# Altium schematic symbol library DummyTSSOP28.SchLib: 1 symbol
Pins are listed as number, name and electrical type; pins without a type are passive.

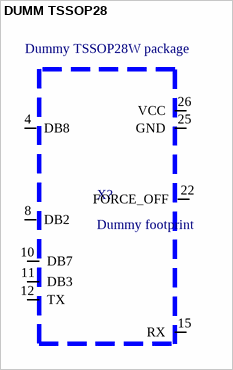
[diagram p0: symbol DUMM TSSOP28]

## DUMM TSSOP28
designator X?, comment Dummy footprint
pins: 4 DB8 (power), 8 DB2 (power), 10 DB7 (power), 11 DB3 (power), 12 TX (power), 15 RX (power), 22 FORCE_OFF (power), 25 GND (power), 26 VCC (power)
text: Dummy TSSOP28W package